# Altium integrated library 04023C104KAT2A_0402.IntLib: 1 symbol
Pins are listed as number, name and electrical type; pins without a type are passive.

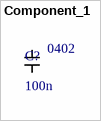
[diagram p0: symbol Component_1]

## Component_1
designator C?, comment 100n  PCB Stake: 0402
Buying URL:: https://uk.farnell.com/avx/04023c104kat2a/cap-0-1-f-25v-10-x7r-0402/dp/1867948RL
footprint *CAPC1005X60N
pins: 1, 2